# EAGLE library part ESP32-S2-SOLO (library Harrington-ICs v130)
ESP32-S2-SOLO Expressif
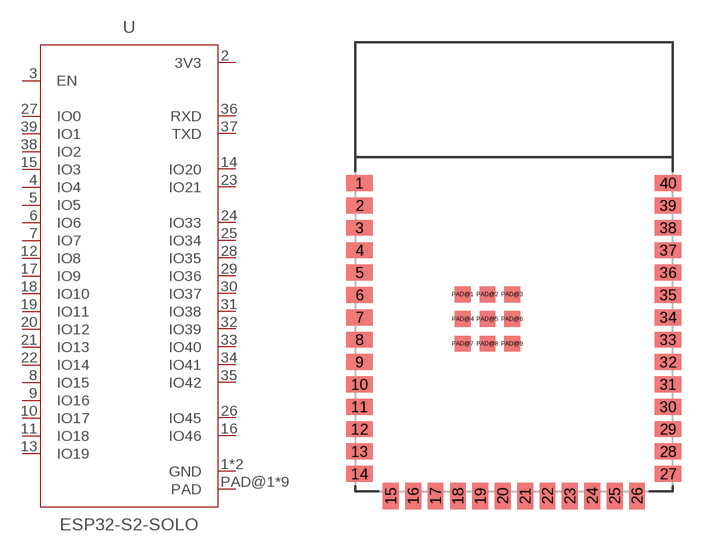
[diagram p9: symbol with the pads of ESP32-S2-SOLO; footprint ESP32-S2-SOLO]

Designator prefix U

## ESP32-S2-SOLO  [ESP32-S2-SOLO]
1  GND  pwr
2  3V3  pwr
3  EN  in
4  IO4
5  IO5
6  IO6
7  IO7
8  IO15
9  IO16
10  IO17
11  IO18
12  IO8
13  IO19
14  IO20
15  IO3
16  IO46  in
17  IO9
18  IO10
19  IO11
20  IO12
21  IO13
22  IO14
23  IO21
24  IO33
25  IO34
26  IO45
27  IO0
28  IO35
29  IO36
30  IO37
31  IO38
32  IO39
33  IO40
34  IO41
35  IO42
36  RXD
37  TXD
38  IO2
39  IO1
40  GND  pwr
PAD@1  PAD  pwr
PAD@2  PAD  pwr
PAD@3  PAD  pwr
PAD@4  PAD  pwr
PAD@5  PAD  pwr
PAD@6  PAD  pwr
PAD@7  PAD  pwr
PAD@8  PAD  pwr
PAD@9  PAD  pwr

## Footprint ESP32-S2-SOLO (pad centres in mm)
smd 1.5 x 0.9: 1 -8.75,18.01; 2 -8.75,16.74; 3 -8.75,15.47; 4 -8.75,14.2; 5 -8.75,12.93; 6 -8.75,11.66; 7 -8.75,10.39; 8 -8.75,9.12; 9 -8.75,7.85; 10 -8.75,6.58; 11 -8.75,5.31; 12 -8.75,4.04; 13 -8.75,2.77; 14 -8.75,1.5; 27 8.75,1.5; 28 8.75,2.77; 29 8.75,4.04; 30 8.75,5.31; 31 8.75,6.58; 32 8.75,7.85; 33 8.75,9.12; 34 8.75,10.39; 35 8.75,11.66; 36 8.75,12.93; 37 8.75,14.2; 38 8.75,15.47; 39 8.75,16.74; 40 8.75,18.01
smd 0.9 x 1.5: 15 -6.985,0.25; 16 -5.715,0.25; 17 -4.445,0.25; 18 -3.175,0.25; 19 -1.905,0.25; 20 -0.635,0.25; 21 0.635,0.25; 22 1.905,0.25; 23 3.175,0.25; 24 4.445,0.25; 25 5.715,0.25; 26 6.985,0.25
smd 0.9 x 0.9: PAD@1 -2.9,11.69; PAD@2 -1.5,11.69; PAD@3 -0.1,11.69; PAD@4 -2.9,10.29; PAD@5 -1.5,10.29; PAD@6 -0.1,10.29; PAD@7 -2.9,8.89; PAD@8 -1.5,8.89; PAD@9 -0.1,8.89